# EAGLE library part ADS7830IPWR (library Deegou_IC)
Analog to Digital Converters - ADC 8-Bit 8-Ch Sampling w/I2C Interface Source: Datasheet <http://www.ti.com/lit/gpn/ads7830>
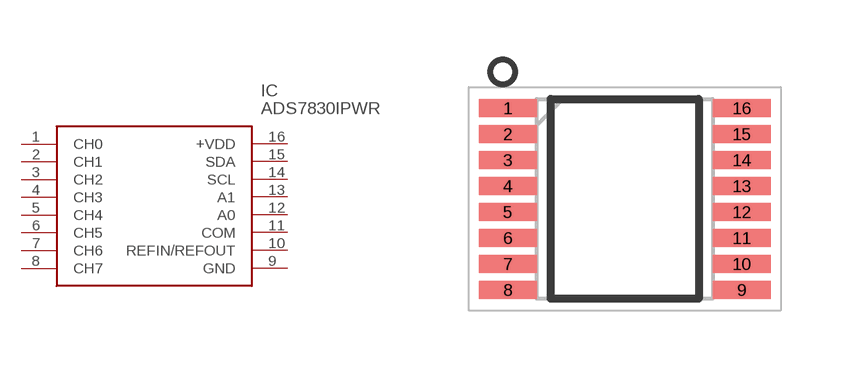
[diagram p42: symbol with the pads of SOP65P640X120-16N; footprint SOP65P640X120-16N]

Designator prefix IC

## ADS7830IPWR (ARROW_PART_NUMBER: ADS7830IPWR; ARROW_PRICE-STOCK: https://www.arrow.com/en/products/ads7830ipwr/texas-instruments; DESCRIPTION: Analog to Digital Converters - ADC 8-Bit 8-Ch Sampling w/I2C Interface; HEIGHT: 1.2mm; MANUFACTURER_NAME: Texas Instruments; MANUFACTURER_PART_NUMBER: ADS7830IPWR)  [SOP65P640X120-16N]
1  CH0
2  CH1
3  CH2
4  CH3
5  CH4
6  CH5
7  CH6
8  CH7
9  GND
10  REFIN/REFOUT
11  COM
12  A0
13  A1
14  SCL
15  SDA
16  +VDD

## Footprint SOP65P640X120-16N (pad centres in mm)
TSSOP-16 CASE 948F ISSUE B
smd 1.45 x 0.45: 1 -2.925,2.275; 2 -2.925,1.625; 3 -2.925,0.975; 4 -2.925,0.325; 5 -2.925,-0.325; 6 -2.925,-0.975; 7 -2.925,-1.625; 8 -2.925,-2.275; 9 2.925,-2.275; 10 2.925,-1.625; 11 2.925,-0.975; 12 2.925,-0.325; 13 2.925,0.325; 14 2.925,0.975; 15 2.925,1.625; 16 2.925,2.275